# EAGLE library part RASPBERRY_PI_ZERO-V1.2 (library HyTechDevices2)
Based on source: peter6960 on raspberrypi.org <https://www.raspberrypi.org/forums/viewtopic.php?f=63&t=127228>
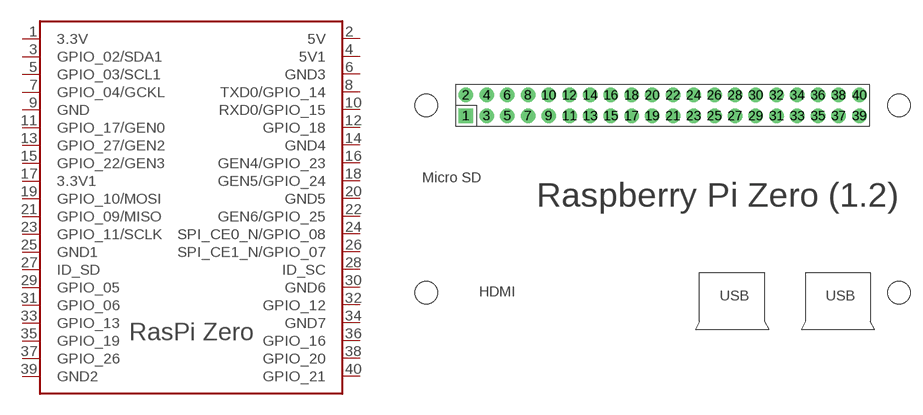
[diagram p32: symbol with the pads of RASPBERRY_PI_ZERO-V1.2; footprint RASPBERRY_PI_ZERO-V1.2]

Designator prefix -

## RASPBERRY_PI_ZERO-V1.2  [RASPBERRY_PI_ZERO-V1.2]
1  3.3V  sup
2  5V  sup
3  GPIO_02/SDA1
4  5V1  sup
5  GPIO_03/SCL1
6  GND3  sup
7  GPIO_04/GCKL
8  TXD0/GPIO_14
9  GND  sup
10  RXD0/GPIO_15
11  GPIO_17/GEN0
12  GPIO_18
13  GPIO_27/GEN2
14  GND4  sup
15  GPIO_22/GEN3
16  GEN4/GPIO_23
17  3.3V1  sup
18  GEN5/GPIO_24
19  GPIO_10/MOSI
20  GND5  sup
21  GPIO_09/MISO
22  GEN6/GPIO_25
23  GPIO_11/SCLK
24  SPI_CE0_N/GPIO_08
25  GND1  sup
26  SPI_CE1_N/GPIO_07
27  ID_SD
28  ID_SC
29  GPIO_05
30  GND6  sup
31  GPIO_06
32  GPIO_12
33  GPIO_13
34  GND7  sup
35  GPIO_19
36  GPIO_16
37  GPIO_26
38  GPIO_20
39  GND2  sup
40  GPIO_21

## Footprint RASPBERRY_PI_ZERO-V1.2 (pad centres in mm)
Raspberry Pi Zero, full outline with position of big connectors & drill holes
drill 1 pad 1.778 square: 1 8.37,25.23
drill 1 pad 1.778: 2 8.37,27.77; 3 10.91,25.23; 4 10.91,27.77; 5 13.45,25.23; 6 13.45,27.77; 7 15.99,25.23; 8 15.99,27.77; 9 18.53,25.23; 10 18.53,27.77; 11 21.07,25.23; 12 21.07,27.77; 13 23.61,25.23; 14 23.61,27.77; 15 26.15,25.23; 16 26.15,27.77; 17 28.69,25.23; 18 28.69,27.77; 19 31.23,25.23; 20 31.23,27.77; 21 33.77,25.23; 22 33.77,27.77; 23 36.31,25.23; 24 36.31,27.77; 25 38.85,25.23; 26 38.85,27.77; 27 41.39,25.23; 28 41.39,27.77; 29 43.93,25.23; 30 43.93,27.77; 31 46.47,25.23; 32 46.47,27.77; 33 49.01,25.23; 34 49.01,27.77; 35 51.55,25.23; 36 51.55,27.77; 37 54.09,25.23; 38 54.09,27.77; 39 56.63,25.23; 40 56.63,27.77
hole 2.75 at 3.5,3.5
hole 2.75 at 3.5,26.5
hole 2.75 at 61.5,3.5
hole 2.75 at 61.5,26.5